# Altium footprint library ST-214N.PcbLib: 1 footprints
Each footprint in its own frame and in the unit in brackets; x right, y up, seen from the top. Pads: shape width x height; smd on the part's side, far side on the other; paste and mask are expansions set on the pad; w line width, h text height; cw(c..) or ccw(c..) is an arc to the next point about the centre after c.
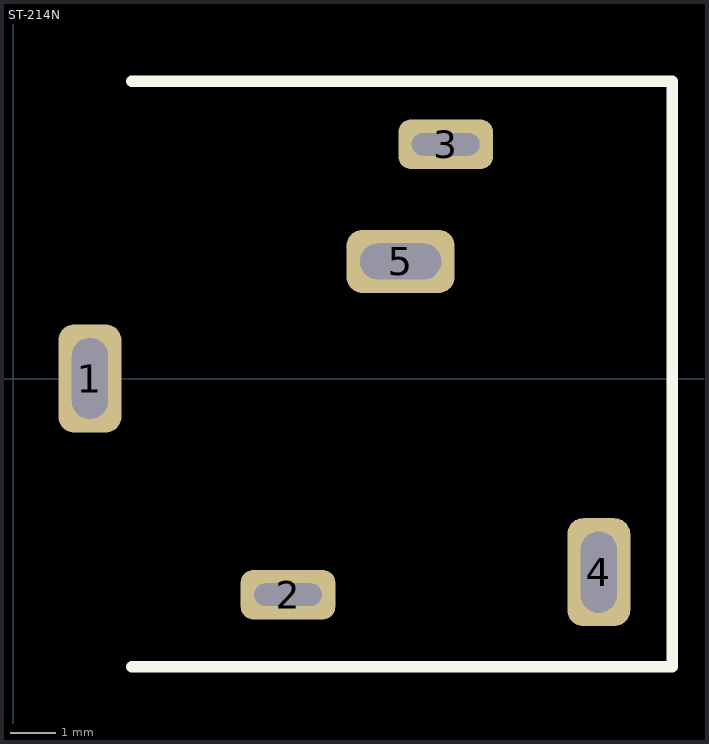
[diagram p0: the footprint, top view; thin cyan lines are the x and y axes]

## ST-214N [mm]
pads (5):
  rrect50% 1.4x2.4 hole 0.8 slot 1.8 at 90 deg: 1(1.7,0) 4(13,-4.3)
  rrect50% 2.1x1.1 hole 0.5 slot 1.5 at 0 deg: 2(6.1,-4.8) 3(9.6,5.2)
  rrect50% 2.4x1.4 hole 0.8 slot 1.8 at 0 deg: 5(8.6,2.6)
Top Overlay:
  lines w0.254: 2.63,-6.4 14.63,-6.4 14.63,6.6 2.63,6.6
3D body: height 5.54, standoff 0.46, extent -3.62,-2.537 0,2.537
3D body: height 6.2, standoff 0, extent 0,-6 14.2,6.3